# Altium schematic symbol library transformer.SchLib: 2 symbols
Pins are listed as number, name and electrical type; pins without a type are passive.

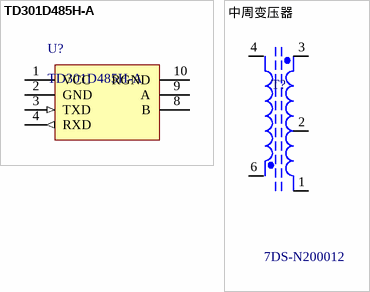
[diagram p0: symbols TD301D485H-A to 中周变压器]

## TD301D485H-A
designator U?
ComponentLink1Description: 生产商; ComponentLink1URL: https://www.mornsun.cn/html/product/content/TDx01D485H-A.html
footprint TD301D485H-A
pins: 1 VCC (power), 2 GND (power), 3 TXD (in), 4 RXD (out), 8 B (power), 9 A (power), 10 RGND (power)

## 中周变压器
designator T?, comment 7DS-N200012
中周变压器; ComponentLink1Description: 中周变压器; ComponentLink1URL: http://www.liheng-dg.cn/content/?233.html
footprint BYQ_ZZ (中周变压器)
pins: 1, 2, 3, 4, 6